# Altium schematic symbol library ArduinoMegaShield.SchLib: 1 symbol
Pins are listed as number, name and electrical type; pins without a type are passive.

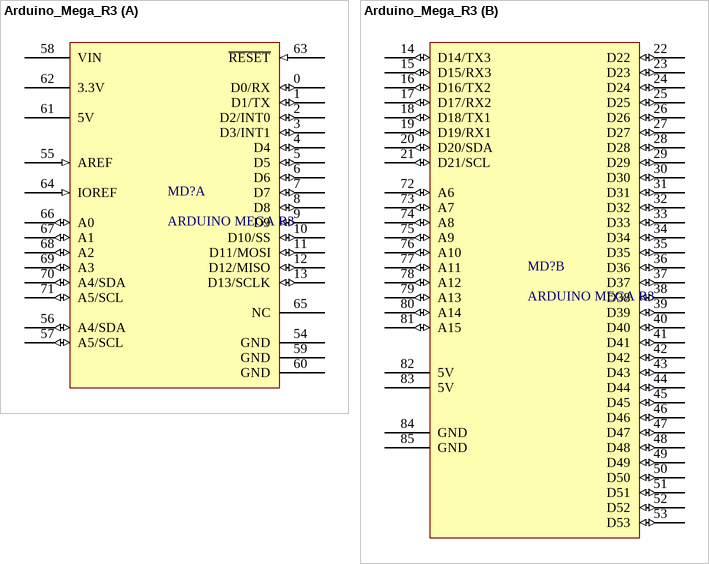
[diagram p0: symbol Arduino_Mega_R3]

## Arduino_Mega_R3
designator MD?, comment ARDUINO MEGA R3
footprint ArduinoMega (Arduino Mega Shield)
part A pins: 0 D0/RX (io), 1 D1/TX (io), 2 D2/INT0 (io), 3 D3/INT1 (io), 4 D4 (io), 5 D5 (io), 6 D6 (io), 7 D7 (io), 8 D8 (io), 9 D9 (io), 10 D10/SS (io), 11 D11/MOSI (io), 12 D12/MISO (io), 13 D13/SCLK (io), 54 GND (power), 55 AREF (in), 56 A4/SDA (io), 57 A5/SCL (io), 58 VIN (power), 59 GND (power), 60 GND (power), 61 5V (power), 62 3.3V (power), 63 ~{RESET} (in), 64 IOREF (in), 65 NC, 66 A0 (io), 67 A1 (io), 68 A2 (io), 69 A3 (io), 70 A4/SDA (io), 71 A5/SCL (io)
part B pins: 14 D14/TX3 (io), 15 D15/RX3 (io), 16 D16/TX2 (io), 17 D17/RX2 (io), 18 D18/TX1 (io), 19 D19/RX1 (io), 20 D20/SDA (io), 21 D21/SCL (io), 22 D22 (io), 23 D23 (io), 24 D24 (io), 25 D25 (io), 26 D26 (io), 27 D27 (io), 28 D28 (io), 29 D29 (io), 30 D30 (io), 31 D31 (io), 32 D32 (io), 33 D33 (io), 34 D34 (io), 35 D35 (io), 36 D36 (io), 37 D37 (io), 38 D38 (io), 39 D39 (io), 40 D40 (io), 41 D41 (io), 42 D42 (io), 43 D43 (io), 44 D44 (io), 45 D45 (io), 46 D46 (io), 47 D47 (io), 48 D48 (io), 49 D49 (io), 50 D50 (io), 51 D51 (io), 52 D52 (io), 53 D53 (io), 72 A6 (io), 73 A7 (io), 74 A8 (io), 75 A9 (io), 76 A10 (io), 77 A11 (io), 78 A12 (io), 79 A13 (io), 80 A14 (io), 81 A15 (io), 82 5V (power), 83 5V (power), 84 GND (power), 85 GND (power)